# Altium footprint library TPSA226K006T0300 Capacitor.PcbLib: 1 footprints
Each footprint in its own frame and in the unit in brackets; x right, y up, seen from the top. Pads: shape width x height; smd on the part's side, far side on the other; paste and mask are expansions set on the pad; w line width, h text height; cw(c..) or ccw(c..) is an arc to the next point about the centre after c.
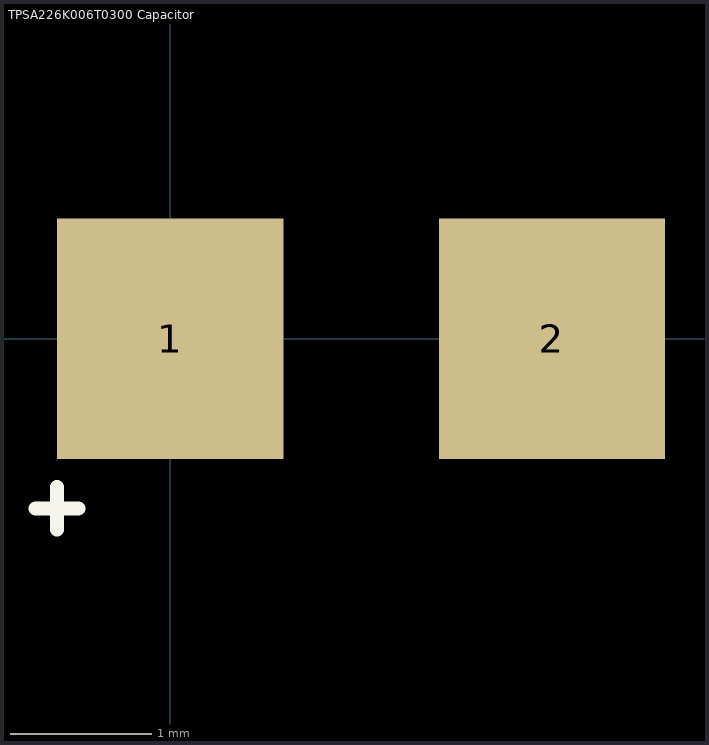
[diagram p0: the footprint, top view; thin cyan lines are the x and y axes]

## TPSA226K006T0300 Capacitor [mm] "Tantalum Capacitor - Solid SMD 6.3V 22uF 10% 1206 ESR 300mOhm AEC-Q200"
pads (2):
  rect 1.6x1.7 smd: 1(0,0) 2(2.7,0)
Top Overlay:
  lines w0.1: -0.95,-1.2 -0.65,-1.2 ; -0.8,-1.35 -0.8,-1.05
3D body "User Library-AVX_ACASE.step": height 1.71, standoff 0, extent -0.303,-0.84 3.097,0.84